# Altium footprint library QFN-64(75X75)-T62.PcbLib: 1 footprints
Each footprint in its own frame and in the unit in brackets; x right, y up, seen from the top. Pads: shape width x height; smd on the part's side, far side on the other; paste and mask are expansions set on the pad; w line width, h text height; cw(c..) or ccw(c..) is an arc to the next point about the centre after c.
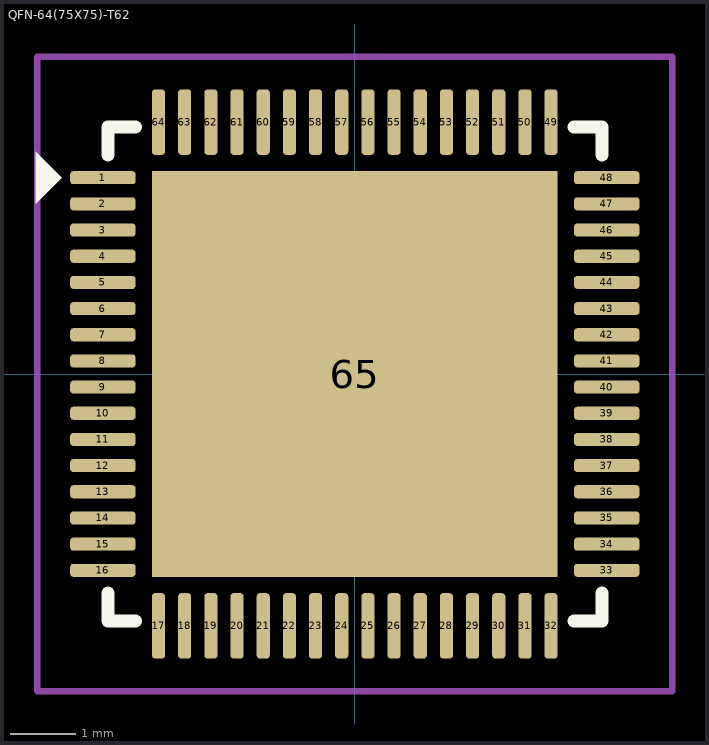
[diagram p0: the footprint, top view; thin cyan lines are the x and y axes]

## QFN-64(75X75)-T62 [mm] "QFN, 64-Leads, Body 7.50x7.50mm, Pitch 0.40mm, Thermal Pad 6.20x6.20mm, IPC Medium Density"
height 0.8
pads (65):
  rrect50% 1x0.2 smd: 1(-3.85,3) 2(-3.85,2.6) 3(-3.85,2.2) 4(-3.85,1.8) 5(-3.85,1.4) 6(-3.85,1) 7(-3.85,0.6) 8(-3.85,0.2) 9(-3.85,-0.2) 10(-3.85,-0.6) 11(-3.85,-1) 12(-3.85,-1.4) 13(-3.85,-1.8) 14(-3.85,-2.2) 15(-3.85,-2.6) 16(-3.85,-3) 33(3.85,-3) 34(3.85,-2.6) 35(3.85,-2.2) 36(3.85,-1.8) 37(3.85,-1.4) 38(3.85,-1) 39(3.85,-0.6) 40(3.85,-0.2) 41(3.85,0.2) 42(3.85,0.6) 43(3.85,1) 44(3.85,1.4) 45(3.85,1.8) 46(3.85,2.2) 47(3.85,2.6) 48(3.85,3)
  rrect50% 0.2x1 smd: 17(-3,-3.85) 18(-2.6,-3.85) 19(-2.2,-3.85) 20(-1.8,-3.85) 21(-1.4,-3.85) 22(-1,-3.85) 23(-0.6,-3.85) 24(-0.2,-3.85) 25(0.2,-3.85) 26(0.6,-3.85) 27(1,-3.85) 28(1.4,-3.85) 29(1.8,-3.85) 30(2.2,-3.85) 31(2.6,-3.85) 32(3,-3.85) 49(3,3.85) 50(2.6,3.85) 51(2.2,3.85) 52(1.8,3.85) 53(1.4,3.85) 54(1,3.85) 55(0.6,3.85) 56(0.2,3.85) 57(-0.2,3.85) 58(-0.6,3.85) 59(-1,3.85) 60(-1.4,3.85) 61(-1.8,3.85) 62(-2.2,3.85) 63(-2.6,3.85) 64(-3,3.85)
  rect 6.2x6.2 smd: 65(0,0)
Top Overlay:
  region: -4.875,2.6 -4.875,3.4 -4.475,3
  lines w0.2: -3.775,-3.35 -3.775,-3.775 -3.35,-3.775 ; -3.775,3.35 -3.775,3.775 -3.35,3.775 ; 3.35,-3.775 3.775,-3.775 3.775,-3.35 ; 3.35,3.775 3.775,3.775 3.775,3.35
Top Courtyard:
  lines w0.1: -0.5,0 0.5,0 ; 0,-0.5 0,0.5 ; -4.85,-4.85 4.85,-4.85 4.85,4.85 -4.85,4.85 -4.85,-4.85
3D body "QFN40P750X750X80_HS-65N.step": height 0.8, standoff 0, extent -3.76,-3.76 3.76,3.76